# EAGLE library part MCP23018 (library PassTransistor)
MCP23018: 16 GPIO I2C Expander Specifications: Manufacturer: Microchip Techonolgy Number of IO: 16 Interface:I2C Current - Output Source/Sink: 25 mA Voltage - Supply: 1.8 V ~ 5.5 V Package: 24-VFQFN Exposed Pad Datasheet: MCP23018 <http://ww1.microchip.com/downloads/en/DeviceDoc/22103a.pdf> Digi-Key Part #: MCP23018-E/MJ-ND <https://www.digikey.com/product-detail/en/microchip-technology/MCP23018-E-MJ/MCP23018-E-MJ-ND/1999503>
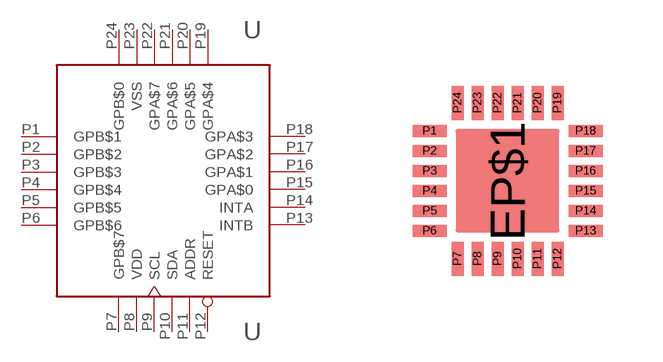
[diagram p2: symbol with the pads of QFN_24_EP; footprint QFN_24_EP]

Designator prefix U

## MCP23018  [QFN_24_EP]
P1  GPB$1
P2  GPB$2
P3  GPB$3
P4  GPB$4
P5  GPB$5
P6  GPB$6
P7  GPB$7
P8  VDD  pwr
P9  SCL  in
P10  SDA
P11  ADDR  in
P12  RESET  in
P13  INTB  out
P14  INTA  out
P15  GPA$0
P16  GPA$1
P17  GPA$2
P18  GPA$3
P19  GPA$4
P20  GPA$5
P21  GPA$6
P22  GPA$7
P23  VSS  pwr
P24  GPB$0

## Footprint QFN_24_EP (pad centres in mm)
smd 2.6 x 2.6: EP$1 0,0
smd 0.85 x 0.3: P1 -1.95,1.25; P2 -1.95,0.75; P3 -1.95,0.25; P4 -1.95,-0.25; P5 -1.95,-0.75; P6 -1.95,-1.25; P13 1.95,-1.25; P14 1.95,-0.75; P15 1.95,-0.25; P16 1.95,0.25; P17 1.95,0.75; P18 1.95,1.25
smd 0.3 x 0.85: P7 -1.25,-1.95; P8 -0.75,-1.95; P9 -0.25,-1.95; P10 0.25,-1.95; P11 0.75,-1.95; P12 1.25,-1.95; P19 1.25,1.95; P20 0.75,1.95; P21 0.25,1.95; P22 -0.25,1.95; P23 -0.75,1.95; P24 -1.25,1.95